# EAGLE library part LMV324DR2G (library LMV324DR2G)
ON SEMICONDUCTOR - LMV324DR2G - Operational Amplifier, QUAD, 1 MHz, 4, 1 V/ s, 2.7V to 5.5V, NSOIC, 14 Source: Datasheet
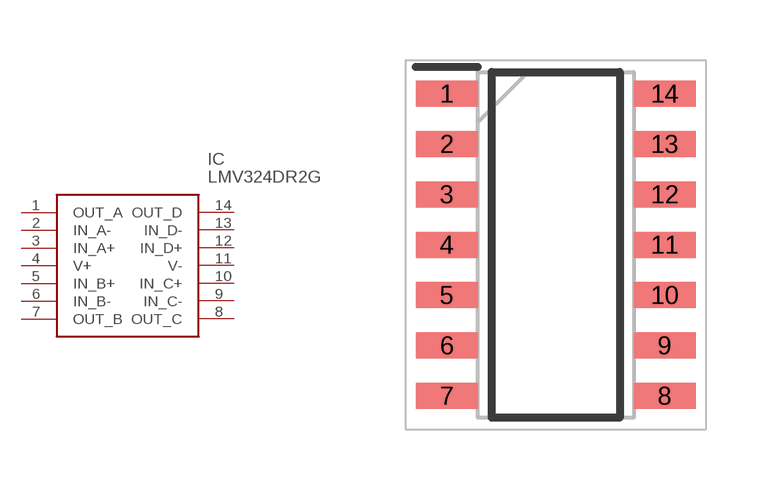
[diagram p0: symbol with the pads of SOP126P600X175-14N; footprint SOP126P600X175-14N]

Designator prefix IC

## LMV324DR2G (Description: ON SEMICONDUCTOR - LMV324DR2G - Operational Amplifier, QUAD, 1 MHz, 4, 1 V/ s, 2.7V to 5.5V, NSOIC, 14; Height: 1.75mm; Manufacturer_Name: ON Semiconductor; Manufacturer_Part_Number: LMV324DR2G)  [SOP126P600X175-14N]
1  OUT_A  out
2  IN_A-  in
3  IN_A+  in
4  V+  pwr
5  IN_B+  in
6  IN_B-  in
7  OUT_B  out
8  OUT_C  out
9  IN_C-  in
10  IN_C+  in
11  V-  pwr
12  IN_D+  in
13  IN_D-  in
14  OUT_D  out

## Footprint SOP126P600X175-14N (pad centres in mm)
751A
smd 1.55 x 0.65: 1 -2.725,3.78; 2 -2.725,2.52; 3 -2.725,1.26; 4 -2.725,0; 5 -2.725,-1.26; 6 -2.725,-2.52; 7 -2.725,-3.78; 8 2.725,-3.78; 9 2.725,-2.52; 10 2.725,-1.26; 11 2.725,0; 12 2.725,1.26; 13 2.725,2.52; 14 2.725,3.78